# Altium schematic symbol library STM32G431RBT6.SchLib: 1 symbol
Pins are listed as number, name and electrical type; pins without a type are passive.

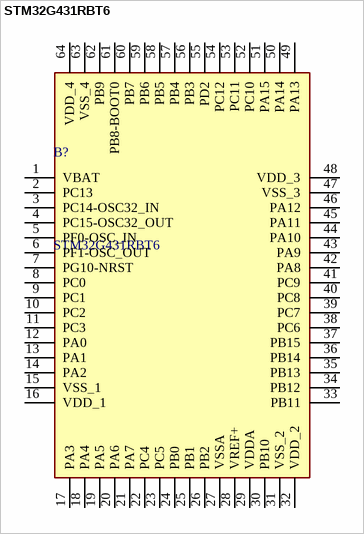
[diagram p0: symbol STM32G431RBT6]

## STM32G431RBT6
designator B?
ARM Microcontrollers - MCU Mainstream Arm Cortex-M4+ MCU 170MHz with 128Kbytes of Flash memory, Math Accelerator, Medium Analog level integration; Manufacturer_Name: STMicroelectronics; Geometry.Height: 1.6mm; Manufacturer_Part_Number: STM32G431RBT6; Mouser Part Number: 511-STM32G431RBT6; Mouser Price/Stock: https://www.mouser.co.uk/ProductDetail/STMicroelectronics/STM32G431RBT6?qs=T3oQrply3y8GpSwPjv1GMg%3D%3D; Arrow Part Number: STM32G431RBT6; Arrow Price/Stock: https://www.arrow.com/en/products/stm32g431rbt6/stmicroelectronics?region=nac; Mouser Testing Part Number: *; Mouser Testing Price/Stock: *; Datasheet Link: https://pl.mouser.com/datasheet/2/389/stm32g431c6-1600866.pdf
footprint QFP50P1200X1200X160-64N
pins: 1 VBAT, 2 PC13, 3 PC14-OSC32_IN, 4 PC15-OSC32_OUT, 5 PF0-OSC_IN, 6 PF1-OSC_OUT, 7 PG10-NRST, 8 PC0, 9 PC1, 10 PC2, 11 PC3, 12 PA0, 13 PA1, 14 PA2, 15 VSS_1, 16 VDD_1, 17 PA3, 18 PA4, 19 PA5, 20 PA6, 21 PA7, 22 PC4, 23 PC5, 24 PB0, 25 PB1, 26 PB2, 27 VSSA, 28 VREF+, 29 VDDA, 30 PB10, 31 VSS_2, 32 VDD_2, 33 PB11, 34 PB12, 35 PB13, 36 PB14, 37 PB15, 38 PC6, 39 PC7, 40 PC8, 41 PC9, 42 PA8, 43 PA9, 44 PA10, 45 PA11, 46 PA12, 47 VSS_3, 48 VDD_3, 49 PA13, 50 PA14, 51 PA15, 52 PC10, 53 PC11, 54 PC12, 55 PD2, 56 PB3, 57 PB4, 58 PB5, 59 PB6, 60 PB7, 61 PB8-BOOT0, 62 PB9, 63 VSS_4, 64 VDD_4